# EAGLE library part NJM2360* (library Parts)
DC/DC コンバータ制御用 IC ■スイッチ電流: 1.5A (MAX) ■発振周波数: 100Hz~100kHz ■過電流検出回路内蔵 ■電源電圧: 2.5V*~40V ■出力電圧 :1.25V~40V ■動作温度 : -40°C～85°C
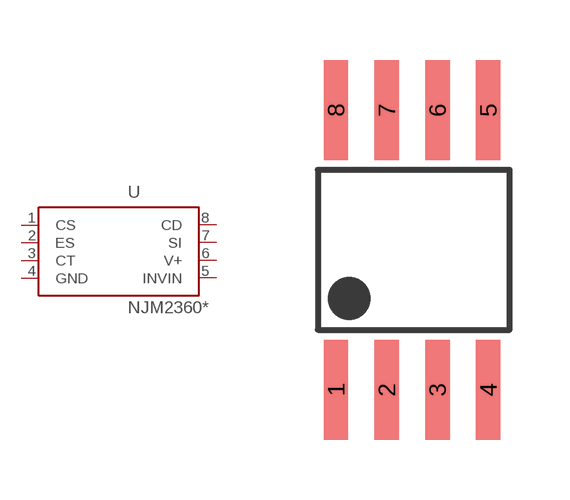
[diagram p0: symbol with the pads of SOP8-1.27; footprint SOP8-1.27]

Designator prefix U

## NJM2360M  [SOP8-1.27]
1  CS  pas
2  ES  pas
3  CT  pas
4  GND  pas
5  INVIN  pas
6  V+  pas
7  SI  pas
8  CD  pas

## Footprint SOP8-1.27 (pad centres in mm)
smd 0.61 x 2.5: 1 -1.945,-3.5; 2 -0.675,-3.5; 3 0.595,-3.5; 4 1.865,-3.5; 5 1.865,3.5; 6 0.595,3.5; 7 -0.675,3.5; 8 -1.945,3.5